# EAGLE library part MODERNDEVICE_M06 (library Scratch_RBBB)
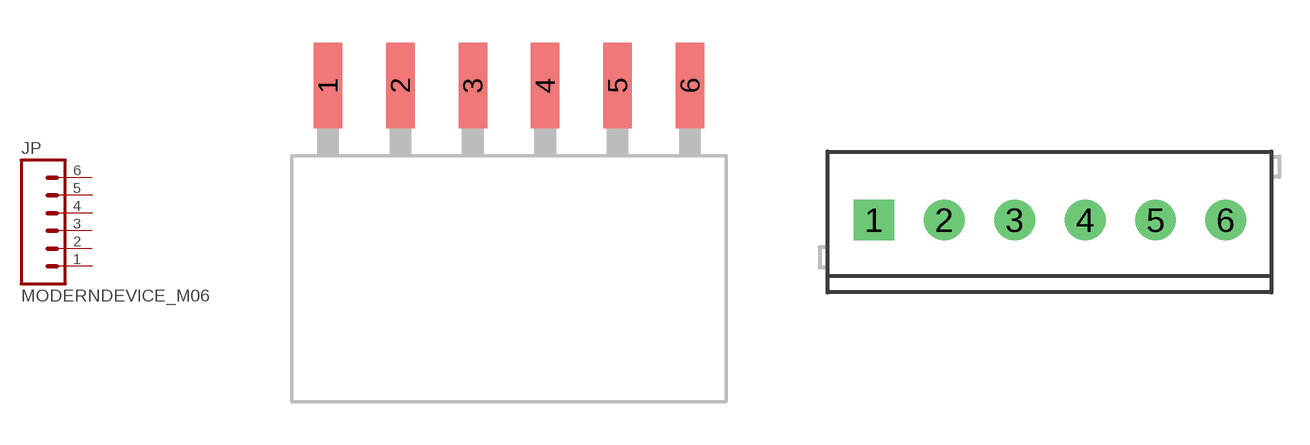
[diagram p1: symbol with the pads of MODERNDEVICE_1X06-SMD_EDGE; footprints MODERNDEVICE_1X06-SMD_EDGE, MODERNDEVICE_SCREWTERMINAL-3.5MM-6]

Designator prefix JP

## MODERNDEVICE_M061X06-SMD_EDGE_FEMALE  [MODERNDEVICE_1X06-SMD_EDGE]
1  1  pas
2  2  pas
3  3  pas
4  4  pas
5  5  pas
6  6  pas

## MODERNDEVICE_M063.5MM-6  [MODERNDEVICE_SCREWTERMINAL-3.5MM-6]
Pads as for MODERNDEVICE_1X06-SMD_EDGE

## MODERNDEVICE_M06FEMALE_LOCK  [MODERNDEVICE_1X06_FEMALE_LOCK.010]
Pads as for MODERNDEVICE_1X06-SMD_EDGE

## MODERNDEVICE_M06LOCK  [MODERNDEVICE_1X06_LOCK]
Pads as for MODERNDEVICE_1X06-SMD_EDGE

## MODERNDEVICE_M06LOCK_LONGPADS  [MODERNDEVICE_1X06_LOCK_LONGPADS]
Pads as for MODERNDEVICE_1X06-SMD_EDGE

## MODERNDEVICE_M06LONGPADS  [MODERNDEVICE_1X06_LONGPADS]
Pads as for MODERNDEVICE_1X06-SMD_EDGE

## MODERNDEVICE_M06NO_SILK  [MODERNDEVICE_1X06_NO_SILK]
Pads as for MODERNDEVICE_1X06-SMD_EDGE

## MODERNDEVICE_M06POGOPIN_HOLES_ONLY  [MODERNDEVICE_1X06_HOLES_ONLY]
Pads as for MODERNDEVICE_1X06-SMD_EDGE

## MODERNDEVICE_M06POLAR  [MODERNDEVICE_MOLEX-1X6]
Pads as for MODERNDEVICE_1X06-SMD_EDGE

## MODERNDEVICE_M06POLAR_LOCK  [MODERNDEVICE_MOLEX-1X6_LOCK]
Pads as for MODERNDEVICE_1X06-SMD_EDGE

## MODERNDEVICE_M06RA  [MODERNDEVICE_MOLEX-1X6-RA]
Pads as for MODERNDEVICE_1X06-SMD_EDGE

## MODERNDEVICE_M06RA_LOCK  [MODERNDEVICE_MOLEX-1X6-RA_LOCK]
Pads as for MODERNDEVICE_1X06-SMD_EDGE

## MODERNDEVICE_M06SIP  [MODERNDEVICE_1X06]
Pads as for MODERNDEVICE_1X06-SMD_EDGE

## MODERNDEVICE_M06SIP_LOCK  [MODERNDEVICE_1X06-SIP_LOCK]
Pads as for MODERNDEVICE_1X06-SMD_EDGE

## MODERNDEVICE_M06SMD  [MODERNDEVICE_1X06-SMD]
Pads as for MODERNDEVICE_1X06-SMD_EDGE

## MODERNDEVICE_M06SMD-FEMALE-V2  [MODERNDEVICE_1X06-SMD-FEMALE-V2]
Pads as for MODERNDEVICE_1X06-SMD_EDGE

## MODERNDEVICE_M06SMD-STRAIGHT  [MODERNDEVICE_1X06_SMD_STRAIGHT]
Pads as for MODERNDEVICE_1X06-SMD_EDGE

## MODERNDEVICE_M06SMD-STRAIGHT-ALT  [MODERNDEVICE_1X06_SMD_STRAIGHT_ALT]
Pads as for MODERNDEVICE_1X06-SMD_EDGE

## MODERNDEVICE_M06SMDF  [MODERNDEVICE_1X06-SMD-FEMALE]
Pads as for MODERNDEVICE_1X06-SMD_EDGE

## MODERNDEVICE_M06SQ_SILK  [MODERNDEVICE_1X06_SQ_SILK]
Pads as for MODERNDEVICE_1X06-SMD_EDGE

## Footprint MODERNDEVICE_1X06-SMD_EDGE (pad centres in mm)
smd 1 x 3: 1 0,-0.08; 2 2.54,-0.08; 3 5.08,-0.08; 4 7.62,-0.08; 5 10.16,-0.08; 6 12.7,-0.08

## Footprint MODERNDEVICE_SCREWTERMINAL-3.5MM-6 (pad centres in mm)
drill 1.2 pad 2.032 square: 1 0,0
drill 1.2 pad 2.032: 2 3.5,0; 3 7,0; 4 10.5,0; 5 14,0; 6 17.5,0

## Footprint MODERNDEVICE_1X06_FEMALE_LOCK.010 (pad centres in mm)
drill 1.016 pad 1.88: 1 0,0.254; 2 2.54,-0.254; 3 5.08,0.254; 4 7.62,-0.254; 5 10.16,0.254; 6 12.7,-0.254

## Footprint MODERNDEVICE_1X06_LOCK (pad centres in mm)
This footprint was designed to help hold the alignment of a through-hole component (i.e. 6-pin header) while soldering it into place. You may notice that each hole has been shifted either up or down by 0.005 of an inch from it s more standard position
drill 1.016 pad 1.88: 1 0,0; 2 2.54,-0.254; 3 5.08,0; 4 7.62,-0.254; 5 10.16,0; 6 12.7,-0.254

## Footprint MODERNDEVICE_1X06_LOCK_LONGPADS (pad centres in mm)
This footprint was designed to help hold the alignment of a through-hole component (i.e. 6-pin header) while soldering it into place. You may notice that each hole has been shifted either up or down by 0.005 of an inch from it s more standard position
drill 1.016 long: 1 0,0; 2 2.54,-0.254; 3 5.08,0; 4 7.62,-0.254; 5 10.16,0; 6 12.7,-0.254

## Footprint MODERNDEVICE_1X06_LONGPADS (pad centres in mm)
drill 1.118 pad 1.88 long: 1 0,0; 2 2.54,0; 3 5.08,0; 4 7.62,0; 5 10.16,0; 6 12.7,0

## Footprint MODERNDEVICE_1X06_NO_SILK (pad centres in mm)
drill 0.965 pad 1.829: 1 0,0; 2 2.54,0; 3 5.08,0; 4 7.62,0; 5 10.16,0; 6 12.7,0

## Footprint MODERNDEVICE_1X06_HOLES_ONLY (pad centres in mm)
drill 0.889 pad 0.813: 1 0,0; 2 2.54,0; 3 5.08,0; 4 7.62,0; 5 10.16,0; 6 12.7,0
hole 1.473 at 0,0
hole 1.473 at 2.54,0
hole 1.473 at 5.08,0
hole 1.473 at 7.62,0
hole 1.473 at 10.16,0
hole 1.473 at 12.7,0

## Footprint MODERNDEVICE_MOLEX-1X6 (pad centres in mm)
drill 1.016 pad 1.88 square: 1 0,0
drill 1.016 pad 1.88: 2 2.54,0; 3 5.08,0; 4 7.62,0; 5 10.16,0; 6 12.7,0

## Footprint MODERNDEVICE_MOLEX-1X6_LOCK (pad centres in mm)
This footprint was designed to help hold the alignment of a through-hole component (i.e. 6-pin header) while soldering it into place. You may notice that each hole has been shifted either up or down by 0.005 of an inch from it s more standard position
drill 1.016 pad 1.88: 1 0,0; 2 2.54,-0.254; 3 5.08,0; 4 7.62,-0.254; 5 10.16,0; 6 12.7,-0.254

## Footprint MODERNDEVICE_MOLEX-1X6-RA (pad centres in mm)
drill 1.016 pad 1.88 square: 1 0,0
drill 1.016 pad 1.88: 2 2.54,0; 3 5.08,0; 4 7.62,0; 5 10.16,0; 6 12.7,0

## Footprint MODERNDEVICE_MOLEX-1X6-RA_LOCK (pad centres in mm)
drill 1.016 pad 1.88 square: 1 0,0.127
drill 1.016 pad 1.88: 2 2.54,-0.127; 3 5.08,0.127; 4 7.62,-0.127; 5 10.16,0.127; 6 12.7,-0.127

## Footprint MODERNDEVICE_1X06 (pad centres in mm)
drill 0.889 pad 1.676: 1 0,0
drill 0.9 pad 1.676: 2 2.54,0; 3 5.08,0; 4 7.62,0; 5 10.16,0; 6 12.7,0

## Footprint MODERNDEVICE_1X06-SIP_LOCK (pad centres in mm)
This footprint was designed to help hold the alignment of a through-hole component (i.e. 6-pin header) while soldering it into place. You may notice that each hole has been shifted either up or down by 0.005 of an inch from it s more standard position
drill 1.016 pad 1.88: 1 0,0; 2 2.54,-0.254; 3 5.08,0; 4 7.62,-0.254; 5 10.16,0; 6 12.7,-0.254

## Footprint MODERNDEVICE_1X06-SMD (pad centres in mm)
smd 1 x 3: 1 -6.35,5; 2 -3.81,5; 3 -1.27,5; 4 1.27,5; 5 3.81,5; 6 6.35,5
hole 1.4 at -5.08,0
hole 1.4 at 5.08,0

## Footprint MODERNDEVICE_1X06-SMD-FEMALE-V2 (pad centres in mm)
Package for 4UCONN part #19686 *UNPROVEN*
smd 1.25 x 3: 1 6.35,3.425; 2 3.81,3.425; 3 1.27,3.425; 4 -1.27,3.425; 5 -3.81,3.425; 6 -6.35,3.425

## Footprint MODERNDEVICE_1X06_SMD_STRAIGHT (pad centres in mm)
smd 1 x 2: 1 0,1.65; 2 -2.54,-1.65; 3 -5.08,1.65; 4 -7.62,-1.65; 5 -10.16,1.65; 6 -12.7,-1.65

## Footprint MODERNDEVICE_1X06_SMD_STRAIGHT_ALT (pad centres in mm)
smd 1 x 2: 1 0,-1.65; 2 -2.54,1.65; 3 -5.08,-1.65; 4 -7.62,1.65; 5 -10.16,-1.65; 6 -12.7,1.65

## Footprint MODERNDEVICE_1X06-SMD-FEMALE (pad centres in mm)
smd 1.02 x 2.16: 1 -6.35,-4.62; 2 -3.81,-4.62; 3 -1.27,-4.62; 4 1.27,-4.62; 5 3.81,-4.62; 6 6.35,-4.62; A1 -6.35,4.62; A2 -3.81,4.62; A3 -1.27,4.62; A4 1.27,4.62; A5 3.81,4.62; A6 6.35,4.62

## Footprint MODERNDEVICE_1X06_SQ_SILK (pad centres in mm)
drill 0.889 pad 1.778: 1 -6.35,0; 2 -3.81,0; 3 -1.27,0; 4 1.27,0; 5 3.81,0; 6 6.35,0